# Altium schematic symbol library stm_library.SchLib: 17 symbols
Pins are listed as number, name and electrical type; pins without a type are passive.

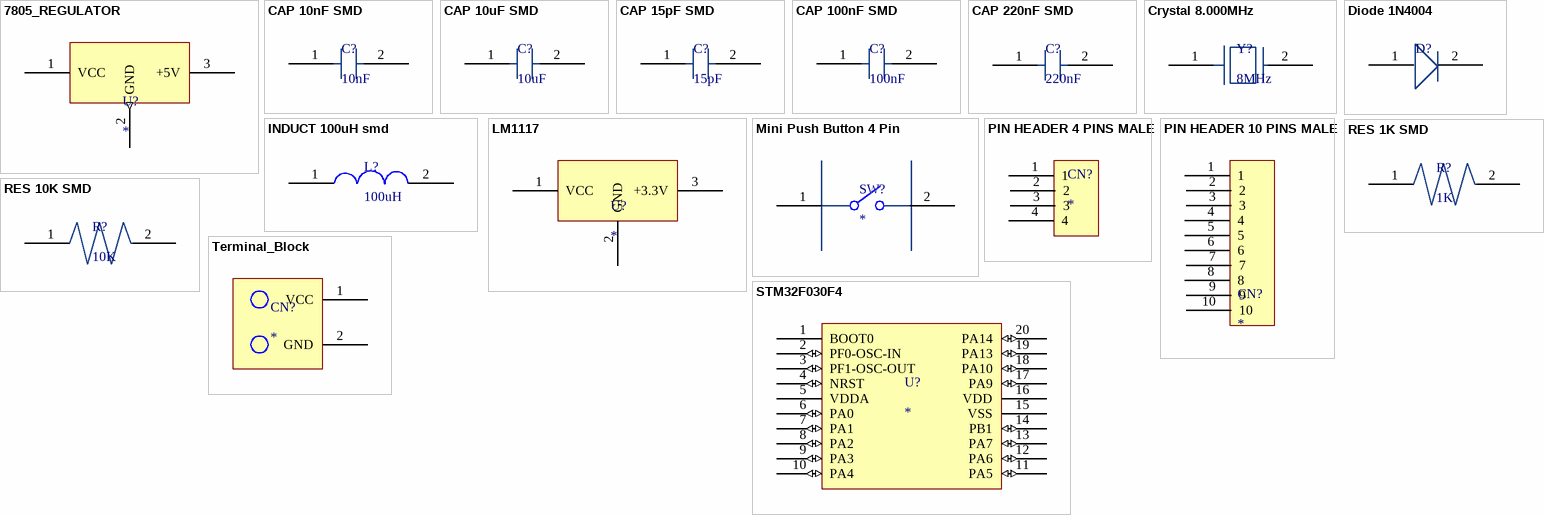
[diagram p0: symbols 7805_REGULATOR to Terminal_Block]

## 7805_REGULATOR
designator U?
Manufacturer: life.augmented; Manufacturer Part Number: L78; Supplier: Makers Electronics; Supplier Part Number: 300000007065
footprint 7805_Regulator
pins: 1 VCC, 2 GND (out), 3 +5V

## CAP 10nF SMD
designator C?, comment 10nF
50V 10nF X7R ±10% 1206 Multilayer Ceramic Capacitors MLCC – SMD/SMT ROHS; manufacturer: CCTC; manufacturer part number: TCC1206X7R103K500DT; supplier: Makers electronics; supplier part number: 34963000814010
footprint CAP 220nF SMD (Multilayer Ceramic Capacitors MLCC – SMD/SMT 220nF ±10 50V 1206)
pins: 1, 2

## CAP 10uF SMD
designator C?, comment 10uF
25V 10uF Y5V ±10% 1206 Multilayer Ceramic Capacitors MLCC – SMD/SMT ROHS; manufacturer: CCTC; manufacturer part number: TCC1206X5R106K250HT; supplier: Makers electronics; supplier part number: 2168949689378
footprint CAP 220nF SMD (Multilayer Ceramic Capacitors MLCC – SMD/SMT 220nF ±10 50V 1206)
pins: 1, 2

## CAP 15pF SMD
designator C?, comment 15pF
50V 15pF C0G ±5% 0603 Multilayer Ceramic Capacitors MLCC – SMD/SMT ROHS– SMD/SMT ROHS; manufacturer: CCTC; manufacturer part number: TCC0603COG150J500CT; supplier: Makers electronics; supplier part number: 4797906887618
footprint CAP 15pF SMD (50V 15pF C0G ±5% 0603 Multilayer Ceramic Capacitors MLCC – SMD/SMT ROHS)
pins: 1, 2

## CAP 100nF SMD
designator C?, comment 100nF
16V 100nF X7R ±10% 0402 Multilayer Ceramic Capacitors MLCC – SMD/SMT ROHS; manufacturer: Samsung Electro-Mechanics; manufacturer part number: CL05B104KO5NNNC; supplier: Makers electronics; supplier part number: 7283127875093
footprint CAP 100nF SMD (16V 100nF X7R ±10% 0402 Multilayer Ceramic Capacitors MLCC – SMD/SMT ROHS)
pins: 1, 2

## CAP 220nF SMD
designator C?, comment 220nF
50V 220nF X7R ±10% 1206 Multilayer Ceramic Capacitors MLCC – SMD/SMT ROHS; manufacturer: Samsung Electro-Mechanics; manufacturer part number: CL31B224KBFNNNE; supplier: Makers electronics; supplier part number: 3496300081912
footprint CAP 220nF SMD (Multilayer Ceramic Capacitors MLCC – SMD/SMT 220nF ±10 50V 1206)
pins: 1, 2

## Crystal 8.000MHz
designator Y?, comment 8MHz
Crystal 8.000MHz 49S 20PPM 20pF 40Ω; manufacturer: HUIYUAN Crystal; manufacturer part number: HY8M49SOB2T02; supplier: Makers Electronics; supplier part number: 7006618269054
footprint Crystal 8MHz
pins: 1, 2

## Diode 1N4004
designator D?
Single 1A 1.1V@1A 400V SMA Diodes – General Purpose ROHS; Manufacturer: YONGYUTAI; Manufacturer part number: 1N4004; Supplier: Makers electronics; Supplier part number: 3496300071791
footprint Diode 1N4004 (Single 1A 1.1V@1A 400V SMA Diodes – General Purpose ROHS)
pins: 1, 2

## INDUCT 100uH smd
designator L?, comment 100uH
510mA 100uH ±10% 611mΩ SMD,5.2x5.8mm Inductors (SMD) ROHS; manufacturer: SHOU HAN; manufacturer part number: CY54-100UH; supplier: LCSC Electronics; supplier part number: C2929439
footprint INDUCT 100uH smd (510mA 100uH ±10% 611m? SMD,5.2x5.8mm Inductors (SMD) ROHS)
pins: 1, 2

## LM1117
designator U?
3.3 SOT-233 Linear Voltage Regulators (LDO) 3.3V  Output Current 800mA; manufacturer: National semiconductors; manufactuerer part number: LM1117; supplier: Makers electronics; supplier part number: 34963000647010
footprint LM1117 (3.3 SOT-233 Linear Voltage Regulators (LDO) 3.3V  Output Current 800mA)
pins: 1 VCC, 2 GND, 3 +3.3V

## Mini Push Button 4 Pin
designator SW?
6x6x7mm Tactile 4 Pin Push Button Switch; manufacturer: HYP (Hongyuan Precision); anufacturer part number: 1TS005F-2500-5001; supplier: Makers electronics; supplier part number: 3496300083299
footprint Mini Push Button 4 Pin
pins: 1, 2

## PIN HEADER 4 PINS MALE
designator CN?
Through Hole 1way 4pins; manufacturer: ZHOURI; manufacturer part number: 2.54-1*4; supplier: Makers electronics; supplier part number: 34963000697510
footprint PIN HEADER 4 PINS MALE (Through Hole 1way 4pins)
pins: 1, 2, 3, 4

## PIN HEADER 10 PINS MALE
designator CN?
Through Hole 1way 10pins; manufacturer: ZHOURI; manufacturer part number: 2.54-1*10; supplier: Makers electronics; supplier part number: 34963000697510
footprint PIN HEADER 10 PINS MALE (Through Hole 1way 10pins)
pins: 1, 2, 3, 4, 5, 6, 7, 8, 9, 10

## RES 1K SMD
designator R?, comment 1K
Chip Resistor SMD 1KΩ ±5% 1W ±100ppm/℃ 2512; Manufacturer: FOJAN; Manufacturer part number: FRC2512J103 TS; Supplier: Makers electronics; Supplier part number: 3496300080755
footprint RES 10K SMD (FRC2512J103 TS    SMD 10K? ±5% 1W ±100ppm/? 2512)
pins: 1, 2

## RES 10K SMD
designator R?, comment 10K
Chip Resistor SMD 10KΩ ±5% 1W ±100ppm/℃ 2512; Manufacturer: FOJAN; Manufacturer part number: FRC2512J103 TS; Supplier: Makers electronics; Supplier part number: 3496300080755
footprint RES 10K SMD (FRC2512J103 TS    SMD 10K? ±5% 1W ±100ppm/? 2512)
pins: 1, 2

## STM32F030F4
designator U?
. TSSOP20 20-pin package pinout; manufacturer: STMicroelectronics; manufacturer part number: STM32F030F4P6TR; supplier: LCSC ELECTRONICS; supplier part number: C89040
footprint STM32F030F4P6TR (16KB 2.4V~3.6V CM0 4KB 48MHz FLASH 15 TSSOP-20 Microcontroller Units (MCUs/MPUs/SOCs) ROHSGGGQQQ)
pins: 1 BOOT0, 2 PF0-OSC-IN (io), 3 PF1-OSC-OUT (io), 4 NRST (io), 5 VDDA, 6 PA0 (io), 7 PA1 (io), 8 PA2 (io), 9 PA3 (io), 10 PA4 (io), 11 PA5 (io), 12 PA6 (io), 13 PA7 (io), 14 PB1 (io), 15 VSS, 16 VDD, 17 PA9 (io), 18 PA10 (io), 19 PA13 (io), 20 PA14 (io)

## Terminal_Block
designator CN?
Manufacturer: CUI Devices; Manufacturer Part Number: TB002-500-02BE; Supplier: Makers Electronics; Supplier Part Number: 1215363384929
footprint TerminalBlock_2pins
pins: 1 VCC, 2 GND